# Altium schematic symbol library Analog-Multiplier.SchLib: 1 symbol
Pins are listed as number, name and electrical type; pins without a type are passive.

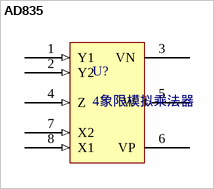
[diagram p0: symbol AD835]

## AD835
designator U?, comment 4象限模拟乘法器
pins: 1 Y1 (in), 2 Y2 (in), 3 VN (power), 4 Z (in), 5 W (out), 6 VP (power), 7 X2 (in), 8 X1 (in)